# EAGLE library part XB32AB (library connectors)
Backplane connector 32 pins Used planes A+B
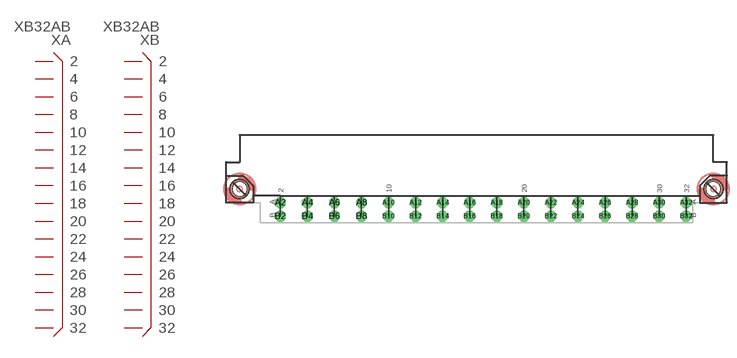
[diagram p56: symbol with the pads of XB32AB; footprint XB32AB]

Designator prefix X; gates A=XB16 B=XB16

## XB32AB  [XB32AB]
A2  A:2
A4  A:4
A6  A:6
A8  A:8
A10  A:10
A12  A:12
A14  A:14
A16  A:16
A18  A:18
A20  A:20
A22  A:22
A24  A:24
A26  A:26
A28  A:28
A30  A:30
A32  A:32
B2  B:2
B4  B:4
B6  B:6
B8  B:8
B10  B:10
B12  B:12
B14  B:14
B16  B:16
B18  B:18
B20  B:20
B22  B:22
B24  B:24
B26  B:26
B28  B:28
B30  B:30
B32  B:32

## Footprint XB32AB (pad centres in mm)
Backplane connector 32 pins Used planes A+B
drill 0.813 pad 2.032 octagon: A2 0,2.54; A4 5.08,2.54; A6 10.16,2.54; A8 15.24,2.54; A10 20.32,2.54; A12 25.4,2.54; A14 30.48,2.54; A16 35.56,2.54; A18 40.64,2.54; A20 45.72,2.54; A22 50.8,2.54; A24 55.88,2.54; A26 60.96,2.54; A28 66.04,2.54; A30 71.12,2.54; A32 76.2,2.54; B2 0,0; B4 5.08,0; B6 10.16,0; B8 15.24,0; B10 20.32,0; B12 25.4,0; B14 30.48,0; B16 35.56,0; B18 40.64,0; B20 45.72,0; B22 50.8,0; B24 55.88,0; B26 60.96,0; B28 66.04,0; B30 71.12,0; B32 76.2,0
hole 2.692 at -7.62,5.08
hole 2.692 at 81.28,5.08